# Altium footprint library PcbLib.PcbLib: 36 footprints (part 1 of 3)
Each footprint in its own frame and in the unit in brackets; x right, y up, seen from the top. Pads: shape width x height; smd on the part's side, far side on the other; paste and mask are expansions set on the pad; w line width, h text height; cw(c..) or ccw(c..) is an arc to the next point about the centre after c.
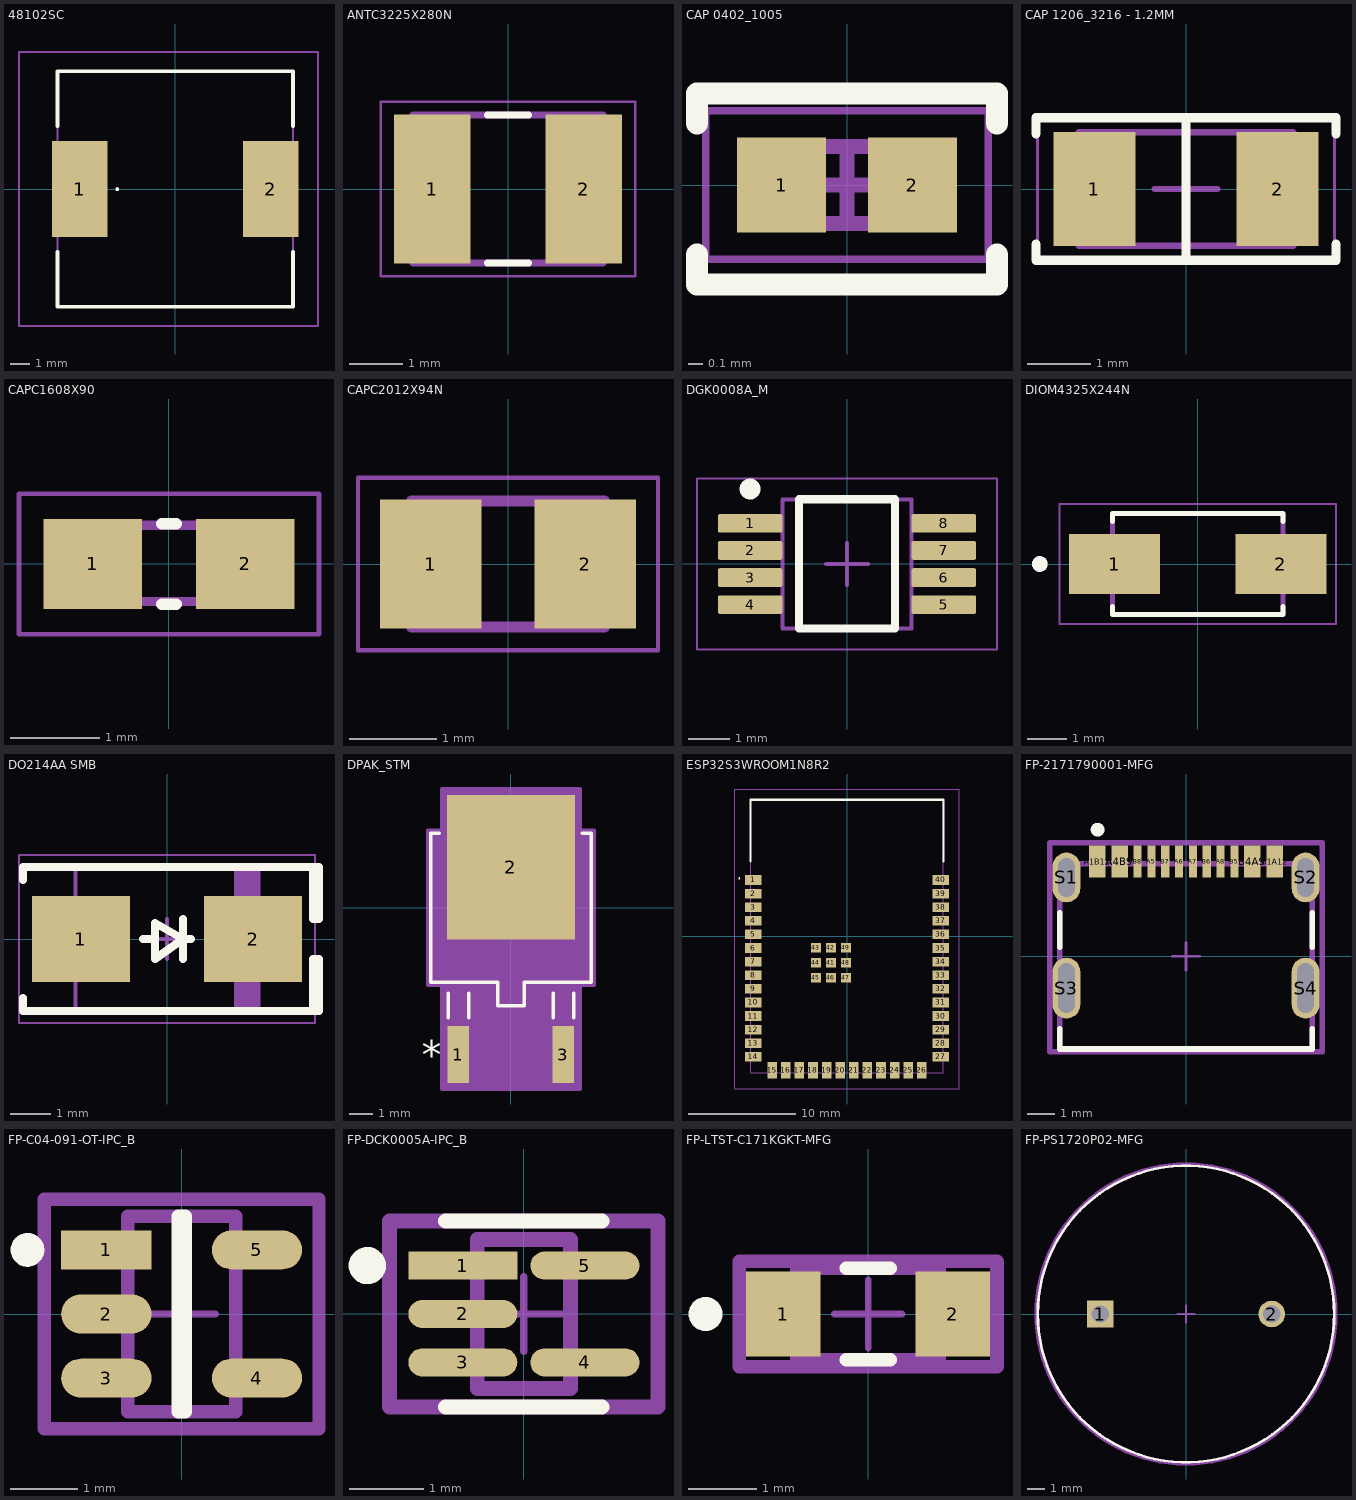
[diagram p0: the footprints below, top view; thin cyan lines are the x and y axes]

## 48102SC [mm]
pads (2):
  rect 2.9x5 smd: 1(-4.95,0) 2(4.95,0)
Top Overlay:
  lines w0.1: -3.06,-0.009 cw(c-3.01,-0.009) -2.96,-0.009 cw(c-3.01,-0.009) -3.06,-0.009
  lines w0.2: -6.1,-3.25 -6.1,-6.1 6.1,-6.1 6.1,-3.25 ; -6.1,3.25 -6.1,6.1 6.1,6.1 6.1,3.25
Top Courtyard:
  lines w0.1: -6.1,-6.1 -6.1,6.1 6.1,6.1 6.1,-6.1 -6.1,-6.1
Bottom Assembly:
  lines w0.1: -8.1,-7.1 -8.1,7.1 7.4,7.1 7.4,-7.1 -8.1,-7.1
3D body "48102SC.stp": height 6.1, standoff 0, extent -6.11,-6.1 6.11,6.1

## ANTC3225X280N [mm]
pads (2):
  rect 1.45x2.81 smd: 1(-1.43,0) 2(1.43,0)
Top Overlay:
  lines w0.127: -0.39,-1.4 0.39,-1.4 ; -0.39,1.4 0.39,1.4
Top 3D Body:
  lines w0.127: -1.8,-1.4 1.8,-1.4 1.8,1.4 -1.8,1.4 -1.8,-1.4
Top Courtyard:
  lines w0.05: -2.404,-1.65 2.404,-1.65 2.404,1.65 -2.404,1.65 -2.404,-1.65
3D body "step_temp.STEP": height 2.8, standoff 0, extent -1.6,-1.25 1.6,1.25

## CAP 0402_1005 [mm] "Chip Capacitor, 2-Leads, Body 1.02x0.51mm, IPC Medium Density"
height 0.52
pads (2):
  rect 0.6x0.64 smd: 1(-0.44,0) 2(0.44,0)
Top Overlay:
  lines w0.15: -1.01,-0.47 -1.01,-0.67 1.01,-0.67 1.01,-0.47 ; -1.01,0.417 -1.01,0.617 1.01,0.617 1.01,0.417
Top 3D Body:
  lines w0.1: -0.515,-0.26 -0.515,0.26 0.515,0.26 0.515,-0.26 -0.515,-0.26
Top Courtyard:
  lines w0.05: -0.95,-0.5 -0.95,0.5 0.95,0.5 0.95,-0.5 -0.95,-0.5
  lines w0.1: -0.26,0 0.26,0 ; 0,-0.26 0,0.26
3D body "0402 cap.STEP": height 0.52, standoff 0, extent -0.5,-0.262 0.5,0.262

## CAP 1206_3216 - 1.2MM [mm] "Chip Capacitor, 2-Leads, Body 3.25x1.60mm, IPC Medium Density"
height 1.2
pads (2):
  rect 1.3x1.8 smd: 1(-1.45,0) 2(1.45,0)
Top Overlay:
  lines w0.15: -2.375,-0.875 -2.375,-1.125 2.375,-1.125 2.375,-0.875 ; -2.375,0.875 -2.375,1.125 2.375,1.125 2.375,0.875 ; 0,-1.125 0,1.125
Top 3D Body:
  lines w0.1: -1.7,-0.9 1.7,-0.9 1.7,0.9 -1.7,0.9 -1.7,-0.9
Top Courtyard:
  lines w0.05: -2.35,-1.15 2.35,-1.15 2.35,1.15 -2.35,1.15 -2.35,-1.15
  lines w0.1: -0.5,0 0.5,0 ; 0,-0.5 0,0.5
3D body "CAP 1206-1.2mm.STEP": height 1.2, standoff 0, extent -1.6,-0.8 1.6,0.8

## CAPC1608X90 [mm]
pads (2):
  rect 1.1x1 smd: 1(-0.85,0) 2(0.85,0)
Top Overlay:
  lines w0.127: -0.08,-0.45 0.08,-0.45 ; -0.08,0.45 0.08,0.45
Top 3D Body:
  region: -0.338,-0.47 -0.839,-0.47 -0.839,0.48 -0.338,0.48
  region: 0.83,-0.471 0.331,-0.471 0.331,0.48 0.83,0.48
  lines w0.102: -0.356,-0.419 0.356,-0.419 ; -0.356,0.432 0.356,0.432
Top Courtyard:
  lines w0.051: -1.673,-0.783 1.673,-0.783 1.673,0.783 -1.673,0.783 -1.673,-0.783
3D body "step_temp.STEP": height 0.9, standoff 0, extent -0.8,-0.4 0.8,0.4

## CAPC2012X94N [mm]
pads (2):
  rect 1.16x1.47 smd: 1(-0.88,0) 2(0.88,0)
Top 3D Body:
  lines w0.127: -1.1,-0.72 1.1,-0.72 1.1,0.72 -1.1,0.72 -1.1,-0.72
Top Courtyard:
  lines w0.05: -1.713,-0.983 1.713,-0.983 1.713,0.983 -1.713,0.983 -1.713,-0.983
3D body "step_temp.STEP": height 0.94, standoff 0, extent -1.005,-0.625 1.005,0.625

## DGK0008A_M [mm] "TSOP, 8-Leads, Body 3.1x3.1mm, Pitch 0.65mm, IPC Low Density"
height 1.1
pads (8):
  rrect22% 1.55x0.45 smd: 1(-2.325,0.975) 2(-2.325,0.325) 3(-2.325,-0.325) 4(-2.325,-0.975) 5(2.325,-0.975) 6(2.325,-0.325) 7(2.325,0.325) 8(2.325,0.975)
Top Overlay:
  circle w0.25: c-2.325,1.8 r0.125
  lines w0.2: -1.15,-1.55 1.15,-1.55 1.15,1.55 -1.15,1.55 -1.15,-1.55
Mechanical 1:
  text ".Designator" at -1.397,-0.254 h0.7
Top 3D Body:
  lines w0.1: -1.55,-1.55 1.55,-1.55 1.55,1.55 -1.55,1.55 -1.55,-1.55
Top Courtyard:
  lines w0.05: -3.6,-2.05 3.6,-2.05 3.6,2.05 -3.6,2.05 -3.6,-2.05
  lines w0.1: -0.5,0 0.5,0 ; 0,-0.5 0,0.5
3D body "MUY08A_ASM.stp": height 0.94, standoff -0.02, extent -2.451,-1.499 2.451,1.499

## DIOM4325X244N [mm]
height 2.44
pads (2):
  rect 2.33x1.55 smd: 1(-2.135,0) 2(2.135,0)
Top Overlay:
  circle w0.2: c-4.05,0 r0.1
  lines w0.127: -2.187,-1.095 -2.187,-1.292 2.187,-1.292 2.187,-1.095 ; -2.187,1.095 -2.187,1.292 2.187,1.292 2.187,1.095
Top 3D Body:
  circle w0.2: c-4.05,0 r0.1
  lines w0.127: -2.187,-1.292 2.187,-1.292 2.187,1.292 -2.187,1.292 -2.187,-1.292
Top Courtyard:
  lines w0.05: -3.55,-1.542 3.55,-1.542 3.55,1.542 -3.55,1.542 -3.55,-1.542
3D body "User Library-DO-214AC SMA.STEP": height 1, standoff -1.4, extent -2.6,-1.3 2.6,1.3

## DO214AA SMB [mm] "Molded Diode, 2-Leads, Body 4.31x3.62mm, IPC Medium Density"
height 2.44
pads (2):
  rect 2.45x2.15 smd: 1(-2.15,0) 2(2.15,0)
Top Overlay:
  lines w0.2: -3.6,-1.475 -3.6,-1.8 3.8,-1.8 3.8,-0.5 3.65,-0.5 3.65,-1.8 ; -3.6,1.475 -3.6,1.8 3.8,1.8 3.8,0.5 3.65,0.5 3.65,1.8 ; -0.6,0 -0.3,0 ; 0.4,-0.5 0.4,0.5 ; 0.6,0 0.4,0 ; 0.4,0 -0.3,-0.5 -0.3,0.4 0.4,0
Top 3D Body:
  rectangle: 1.67,-1.8 2.285,1.8
  lines w0.1: -2.285,-1.8 -2.285,1.8 2.285,1.8 2.285,-1.8 -2.285,-1.8
Top Courtyard:
  lines w0.05: -3.7,-2.1 -3.7,2.1 3.7,2.1 3.7,-2.1 -3.7,-2.1
  lines w0.1: -0.5,0 0.5,0 ; 0,-0.5 0,0.5
3D body "SMB.STEP": height 2.4, standoff 0, extent -2.6,-1.799 2.6,1.8

## DPAK_STM [mil]
pads (3):
  rect 37x98 smd paste+0 mask+0: 1(-90,-251.5) 3(90,-251.5)
  rect 219x248 smd paste+0 mask+0: 2(0,69.5)
Top Overlay:
  lines w6: -122.6,127.5 -137.5,127.5 -137.5,-127.5 -22.5,-127.5 -22.5,-167.5 22.5,-167.5 22.5,-127.5 137.5,-127.5 137.5,127.5 122.6,127.5 ; -107.5,-188.5 -107.5,-146.5 ; -72.5,-188.5 -72.5,-146.5 ; 72.5,-188.5 72.5,-146.5 ; 107.5,-188.5 107.5,-146.5
  text "*" at -152.5,-276.5 h50
Top 3D Body:
  lines w1: -132.5,-122.5 132.5,-122.5 132.5,122.5 -132.5,122.5 -132.5,-122.5 ; -107.5,-286.5 -107.5,-122.5 -72.5,-122.5 -72.5,-286.5 -107.5,-286.5 ; -17.5,-162.5 -17.5,-122.5 17.5,-122.5 17.5,-162.5 -17.5,-162.5 ; 72.5,-286.5 72.5,-122.5 107.5,-122.5 107.5,-286.5 72.5,-286.5
  text "RefDes2" at -72.5,0 h50
  text "*" at -102.5,-137.5 h50
Top Courtyard:
  region: -142.5,-132.5 -142.5,132.5 -118.5,132.5 -118.5,203.5 118.5,203.5 118.5,132.5 142.5,132.5 142.5,-132.5 118.5,-132.5 118.5,-310.5 -118.5,-310.5 -118.5,-132.5
  lines w6: -142.5,-132.5 -142.5,132.5 -118.5,132.5 -118.5,203.5 118.5,203.5 118.5,132.5 142.5,132.5 142.5,-132.5 118.5,-132.5 118.5,-310.5 -118.5,-310.5 -118.5,-132.5 -142.5,-132.5
3D body "STD3NK80ZT4.step": height 94.49, standoff 0, extent -127.49,-234.42 128.41,148.46

## ESP32S3WROOM1N8R2 [mm]
pads (49):
  rect 1.5x0.9 smd: 1(-8.75,5.26) 2(-8.75,3.99) 3(-8.75,2.72) 4(-8.75,1.45) 5(-8.75,0.18) 6(-8.75,-1.09) 7(-8.75,-2.36) 8(-8.75,-3.63) 9(-8.75,-4.9) 10(-8.75,-6.17) 11(-8.75,-7.44) 12(-8.75,-8.71) 13(-8.75,-9.98) 14(-8.75,-11.25) 27(8.75,-11.25) 28(8.75,-9.98) 29(8.75,-8.71) 30(8.75,-7.44) 31(8.75,-6.17) 32(8.75,-4.9) 33(8.75,-3.63) 34(8.75,-2.36) 35(8.75,-1.09) 36(8.75,0.18) 37(8.75,1.45) 38(8.75,2.72) 39(8.75,3.99) 40(8.75,5.26)
  rect 0.9x1.5 smd: 15(-6.985,-12.5) 16(-5.715,-12.5) 17(-4.445,-12.5) 18(-3.175,-12.5) 19(-1.905,-12.5) 20(-0.635,-12.5) 21(0.635,-12.5) 22(1.905,-12.5) 23(3.175,-12.5) 24(4.445,-12.5) 25(5.715,-12.5) 26(6.985,-12.5)
  rect 0.9x0.9 smd: 41(-1.5,-2.46) 42(-1.5,-1.06) 43(-2.9,-1.06) 44(-2.9,-2.46) 45(-2.9,-3.86) 46(-1.5,-3.86) 47(-0.1,-3.86) 48(-0.1,-2.46) 49(-0.1,-1.06)
Top Overlay:
  lines w0.1: -10.1,5.4 ccw(c-10.05,5.4) -10,5.4 ccw(c-10.05,5.4) -10.1,5.4
  lines w0.2: -9,7 -9,12.75 9,12.75 9,7
Top 3D Body:
  lines w0.1: -10.5,-14.25 -10.5,13.75 10.5,13.75 10.5,-14.25 -10.5,-14.25 ; -9,-12.75 -9,12.75 9,12.75 9,-12.75 -9,-12.75
3D body "step_temp.STEP": height 3.25, standoff 0, extent -9,-12.75 9,12.75

## FP-2171790001-MFG [mm]
pads (16):
  rect 0.6x1.15 smd paste+0 mask+0: A1B12(-3.2,3.425) A4B9(-2.4,3.425) B1A12(3.2,3.425) B4A9(2.4,3.425)
  rect 0.3x1.15 smd paste+0 mask+0: A5(-1.25,3.425) A6(-0.25,3.425) A7(0.25,3.425) A8(1.25,3.425) B5(1.75,3.425) B6(0.75,3.425) B7(-0.75,3.425) B8(-1.75,3.425)
  rrect100% 1x1.8 hole 1.4 slot 0.6 at 0 deg paste-2539.97 mask+0: S1(-4.32,2.85) S2(4.32,2.85)
  rrect100% 1x2.2 hole 1.8 slot 0.6 at 0 deg paste-2539.97 mask+0: S3(-4.32,-1.15) S4(4.32,-1.15)
Top Overlay:
  circle w0.25: c-3.195,4.575 r0.125
  lines w0.2: -4.57,-2.625 -4.57,-3.35 4.57,-3.35 4.57,-2.625 ; -4.57,0.325 -4.57,1.575 ; 4.57,0.325 4.57,1.575
Top Assembly:
  lines w0.2: -4.92,-3.45 -4.92,4.1 4.92,4.1 4.92,-3.45 -4.92,-3.45
  text ".Designator" at 0,0.513 h1
Top 3D Body:
  lines w0.2: -4.57,-3.35 -4.57,3.35 4.57,3.35 4.57,-3.35 -4.57,-3.35
Top Courtyard:
  lines w0.2: -4.92,-3.45 -4.92,4.1 4.92,4.1 4.92,-3.45 -4.92,-3.45
Top Component Center:
  lines w0.1: -0.5,0 0.5,0 ; 0,-0.5 0,0.5
3D body "Conn_Molex_2171790001_eec.STEP": height 0.25, standoff 0, extent -4.92,-3.45 4.92,4.1

## FP-C04-091-OT-IPC_B [mm]
pads (5):
  rect 1.338x0.578 smd paste+0 mask+0: 1(-1.116,0.95)
  rrect100% 1.338x0.578 smd paste+0 mask+0: 2(-1.116,0) 3(-1.116,-0.95) 4(1.116,-0.95) 5(1.116,0.95)
Top Overlay:
  circle w0.25: c-2.285,0.95 r0.125
  lines w0.2: -0.053,-1.45 0.053,-1.45 0.053,1.45 -0.053,1.45 -0.053,-1.45
Top Assembly:
  lines w0.2: -2.035,-1.7 -2.035,1.7 2.035,1.7 2.035,-1.7 -2.035,-1.7
  text ".Designator" at 0,0.188 h1
Top 3D Body:
  lines w0.2: -0.8,-1.45 -0.8,1.45 0.8,1.45 0.8,-1.45 -0.8,-1.45
Top Courtyard:
  lines w0.2: -2.035,-1.7 -2.035,1.7 2.035,1.7 2.035,-1.7 -2.035,-1.7
Top Component Center:
  lines w0.1: -0.5,0 0.5,0 ; 0,-0.5 0,0.5
3D body "OT.STEP": height 1.45, standoff 0, extent -1.352,-1.456 1.348,1.444

## FP-DCK0005A-IPC_B [mm]
pads (5):
  rect 1.464x0.376 smd paste+0 mask+0: 1(-0.82,0.65)
  rrect100% 1.464x0.376 smd paste+0 mask+0: 2(-0.82,0) 3(-0.82,-0.65) 4(0.82,-0.65) 5(0.82,0.65)
Top Overlay:
  circle w0.25: c-2.102,0.65 r0.125
  lines w0.2: -1.05,-1.25 1.05,-1.25 ; -1.05,1.25 1.05,1.25
Top Assembly:
  lines w0.2: -1.802,-1.25 1.802,-1.25 1.802,1.25 -1.802,1.25 -1.802,-1.25
  text ".Designator" at 0,0.188 h1
Top 3D Body:
  lines w0.2: -0.625,-1 0.625,-1 0.625,1 -0.625,1 -0.625,-1
Top Courtyard:
  lines w0.2: -1.802,-1.25 1.802,-1.25 1.802,1.25 -1.802,1.25 -1.802,-1.25
Top Component Center:
  lines w0.1: -0.5,0 0.5,0 ; 0,-0.5 0,0.5
3D body "TLV3691IDCKR.stp": height 1, standoff 0, extent -1.05,-1 1.05,1

## FP-LTST-C171KGKT-MFG [mm]
pads (2):
  rect 1.1x1.25 smd paste+0 mask+0: 1(-1.25,0) 2(1.25,0)
Top Overlay:
  circle w0.25: c-2.4,0 r0.125
  lines w0.2: -0.325,-0.675 0.325,-0.675 ; -0.325,0.675 0.325,0.675
Top Assembly:
  lines w0.2: -1.9,-0.775 1.9,-0.775 1.9,0.775 -1.9,0.775 -1.9,-0.775
  text ".Designator" at 0,-0.001 h1
Top 3D Body:
  lines w0.2: -1.05,-0.675 1.05,-0.675 1.05,0.675 -1.05,0.675 -1.05,-0.675
Top Courtyard:
  lines w0.2: -1.9,-0.775 1.9,-0.775 1.9,0.775 -1.9,0.775 -1.9,-0.775
Top Component Center:
  lines w0.1: -0.5,0 0.5,0 ; 0,-0.5 0,0.5
3D body "Diode_Lite-On_LTST-C171KGKT_eec.STEP": height 0.25, standoff 0, extent -1.9,-0.775 1.9,0.775

## FP-PS1720P02-MFG [mm]
pads (2):
  rect 1.55x1.55 hole 1 paste-2539.97 mask+0: 1(-5,0)
  round 1.55 hole 1 paste-2539.97 mask+0: 2(5,0)
Top Overlay:
  circle w0.15: c0,0 r8.65
Top Assembly:
  text ".Designator" at 0,-0.001 h1
Top 3D Body:
  circle w0.15: c0,0 r8.65
Top Courtyard:
  lines w0.2: -8.75,0 cw(c0,0) 8.75,0 cw(c0,0) -8.75,0
Top Component Center:
  lines w0.1: -0.5,0 0.5,0 ; 0,-0.5 0,0.5
3D body "Speak_TDK_Corporation_PS1720P02_eec.STEP": height 0.25, standoff 0, extent -8.75,-8.75 8.75,8.75